# EAGLE library part TLC59116F (library CougsInSpace-IC-Conversion)
TLC59116F - I²C PWM Generator
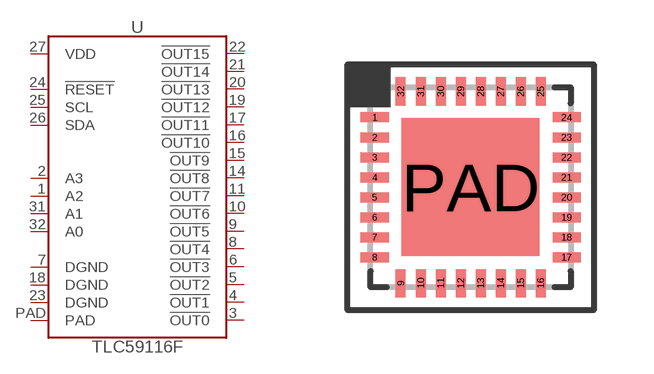
[diagram p6: symbol with the pads of QFN-32-5050; footprint QFN-32-5050]

Designator prefix U

## TLC59116F (SKU: 27-0007; VALUE: TLC59116F)  [QFN-32-5050]
1  A2  pas
2  A3  pas
3  !OUT0  out
4  !OUT1  out
5  !OUT2  out
6  !OUT3  out
7  DGND  pwr
8  !OUT4  out
9  !OUT5  out
10  !OUT6  out
11  !OUT7  out
14  !OUT8  out
15  !OUT9  out
16  !OUT10  out
17  !OUT11  out
18  DGND  pwr
19  !OUT12  out
20  !OUT13  out
21  !OUT14  out
22  !OUT15  out
23  DGND  pwr
24  !RESET  in
25  SCL  in
26  SDA
27  VDD  pwr
31  A1  pas
32  A0  pas
PAD  PAD  pwr

## Footprint QFN-32-5050 (pad centres in mm)
Quad Flat No-Leads (QFN) - 32 pins - 5.0 x 5.0 mm
smd 0.7 x 0.25: 1 -2.4,1.75; 2 -2.4,1.25; 3 -2.4,0.75; 4 -2.4,0.25; 5 -2.4,-0.25; 6 -2.4,-0.75; 7 -2.4,-1.25; 8 -2.4,-1.75; 17 2.4,-1.75; 18 2.4,-1.25; 19 2.4,-0.75; 20 2.4,-0.25; 21 2.4,0.25; 22 2.4,0.75; 23 2.4,1.25; 24 2.4,1.75
smd 0.25 x 0.7: 9 -1.75,-2.4; 10 -1.25,-2.4; 11 -0.75,-2.4; 12 -0.25,-2.4; 13 0.25,-2.4; 14 0.75,-2.4; 15 1.25,-2.4; 16 1.75,-2.4; 25 1.75,2.4; 26 1.25,2.4; 27 0.75,2.4; 28 0.25,2.4; 29 -0.25,2.4; 30 -0.75,2.4; 31 -1.25,2.4; 32 -1.75,2.4
smd 3.45 x 3.45: PAD 0,0